# Altium schematic symbol library Switch.SchLib: 3 symbols
Pins are listed as number, name and electrical type; pins without a type are passive.

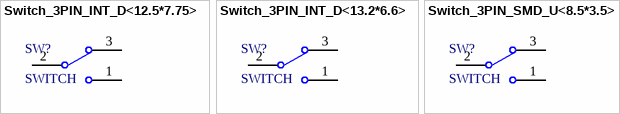
[diagram p0: symbols Switch_3PIN_INT_D<12.5*7.75> to Switch_3PIN_SMD_U<8.5*3.5>]

## Switch_3PIN_INT_D<12.5*7.75>
designator SW?, comment SWITCH
直插开关
footprint SWITCH1X2<12.5*7.75>
pins: 1, 2, 3

## Switch_3PIN_INT_D<13.2*6.6>
designator SW?, comment SWITCH
直插开关
footprint switch<13.2*6.6>
pins: 1, 2, 3

## Switch_3PIN_SMD_U<8.5*3.5>
designator SW?, comment SWITCH
贴片开关
footprint SWITCH<8.5*3.5>
pins: 1, 2, 3